# EAGLE library part CON_CINCH_MODICE_SE_581_01_48_005 (library own_parts2)
Cinch Modice SE Automotive connector (581 01 48 005) https://de.rs-online.com/web/p/elektrische-kfz-steckverbinder/6647204
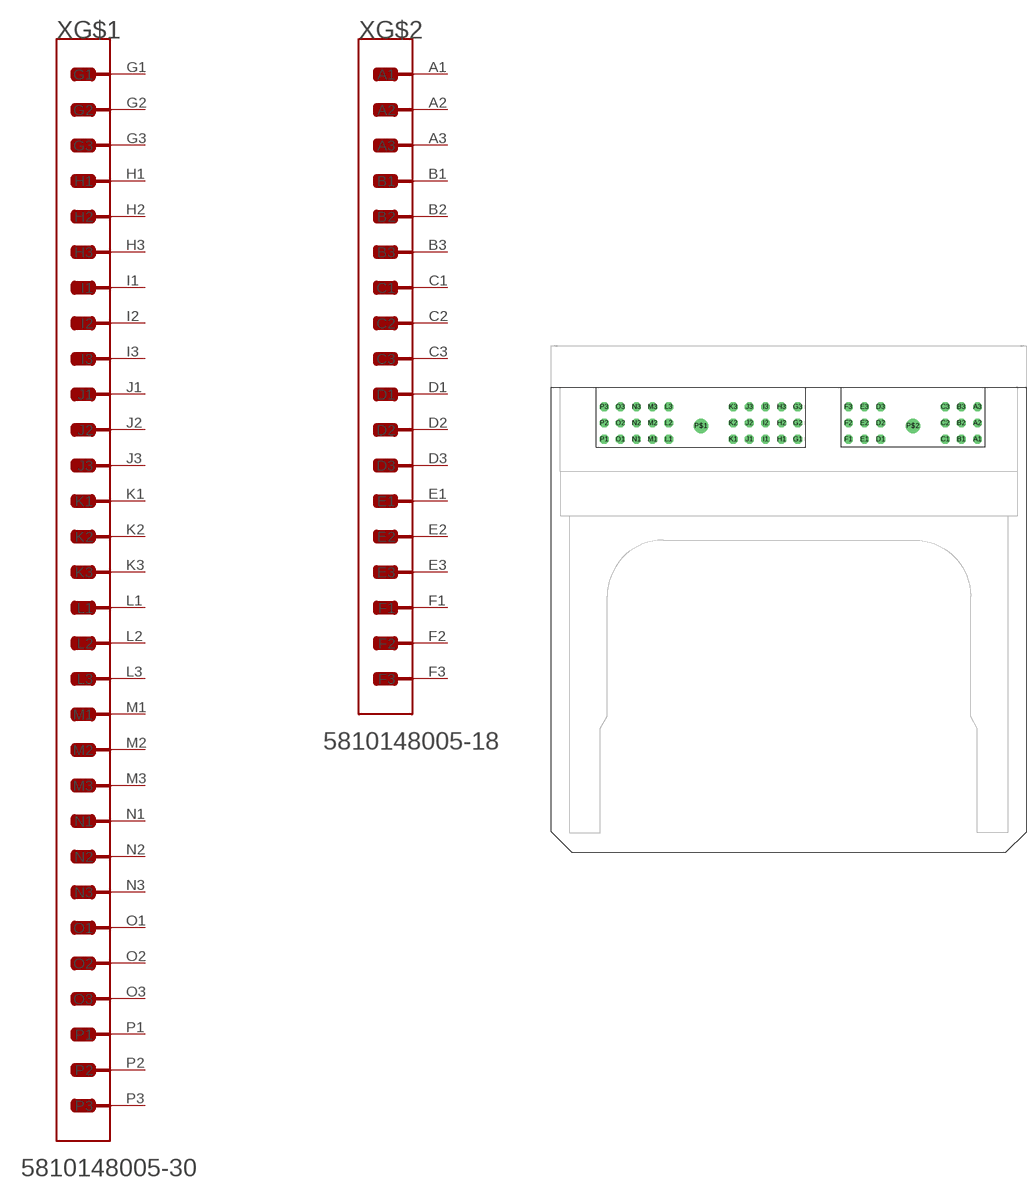
[diagram p2: symbol with the pads of CINCH_MODICE_SE_CONNECTOR_BOARD_DIMENSIONS; footprint CINCH_MODICE_SE_CONNECTOR_BOARD_DIMENSIONS]

Designator prefix X; gates G$1=CON_CINCH_MODICE_SE_30P G$2=CON_CINCH_MODICE_SE_18P

## CON_CINCH_MODICE_SE_581_01_48_005CINCH_MODICE_SE_48WAY_PCB  [CINCH_MODICE_SE_CONNECTOR_BOARD_DIMENSIONS]
A1  G$2:A1  pas
A2  G$2:A2  pas
A3  G$2:A3  pas
B1  G$2:B1  pas
B2  G$2:B2  pas
B3  G$2:B3  pas
C1  G$2:C1  pas
C2  G$2:C2  pas
C3  G$2:C3  pas
D1  G$2:D1  pas
D2  G$2:D2  pas
D3  G$2:D3  pas
E1  G$2:E1  pas
E2  G$2:E2  pas
E3  G$2:E3  pas
F1  G$2:F1  pas
F2  G$2:F2  pas
F3  G$2:F3  pas
G1  G$1:G1  pas
G2  G$1:G2  pas
G3  G$1:G3  pas
H1  G$1:H1  pas
H2  G$1:H2  pas
H3  G$1:H3  pas
I1  G$1:I1  pas
I2  G$1:I2  pas
I3  G$1:I3  pas
J1  G$1:J1  pas
J2  G$1:J2  pas
J3  G$1:J3  pas
K1  G$1:K1  pas
K2  G$1:K2  pas
K3  G$1:K3  pas
L1  G$1:L1  pas
L2  G$1:L2  pas
L3  G$1:L3  pas
M1  G$1:M1  pas
M2  G$1:M2  pas
M3  G$1:M3  pas
N1  G$1:N1  pas
N2  G$1:N2  pas
N3  G$1:N3  pas
O1  G$1:O1  pas
O2  G$1:O2  pas
O3  G$1:O3  pas
P1  G$1:P1  pas
P2  G$1:P2  pas
P3  G$1:P3  pas

## Footprint CINCH_MODICE_SE_CONNECTOR_BOARD_DIMENSIONS (pad centres in mm)
Cinch 48-Way Header Modice SE PartNo.: 581 01 48 005 S (Rev. D) PCB Thickness: 62mil / 1.57mm Max. Component Height - Bottom: 80mil / 2.03mm Max. Component Height - Zone1: 1140mil / 28.95mm Max. Component Height - Zone2: 600mil / 15.24mm Max. Component Height - Zone3: 900mil / 22.86mm Max. Component Height - Zone4: variable height (see datasheet) | Zone1 >= Zone4 >= Zone3
drill 1.27 pad 2.159 octagon: A1 104.75,101.498; A2 104.75,105.486; A3 104.75,109.474; B1 100.787,101.498; B2 100.787,105.486; B3 100.787,109.474; C1 96.825,101.498; C2 96.825,105.486; C3 96.825,109.474; D1 80.975,101.498; D2 80.975,105.486; D3 80.975,109.474; E1 77.013,101.498; E2 77.013,105.486; E3 77.013,109.474; F1 73.05,101.498; F2 73.05,105.486; F3 73.05,109.474; G1 60.604,101.498; G2 60.604,105.486; G3 60.604,109.474; H1 56.642,101.498; H2 56.642,105.486; H3 56.642,109.474; I1 52.68,101.498; I2 52.68,105.486; I3 52.68,109.474; J1 48.717,101.498; J2 48.717,105.486; J3 48.717,109.474; K1 44.755,101.498; K2 44.755,105.486; K3 44.755,109.474; L1 28.905,101.498; L2 28.905,105.486; L3 28.905,109.474; M1 24.943,101.498; M2 24.943,105.486; M3 24.943,109.474; N1 20.98,101.498; N2 20.98,105.486; N3 20.98,109.474; O1 17.018,101.498; O2 17.018,105.486; O3 17.018,109.474; P1 13.056,101.498; P2 13.056,105.486; P3 13.056,109.474
drill 2.54: P$1 36.83,104.775; P$2 88.9,104.775